# Altium integrated library FDC6331L.IntLib: 1 symbol
Pins are listed as number, name and electrical type; pins without a type are passive.

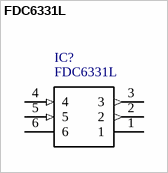
[diagram p0: symbol FDC6331L]

## FDC6331L
designator IC?
FDC6331 Series 8 V 2.8 A High Side Integrated Load Switch - SSOT-6; MF: ON Semiconductor; Availability: Unavailable; Package: TSOT-23-6 ON Semiconductor; Price: None; SnapEDA_Link: https://www.snapeda.com/parts/FDC6331L/ON%20Semiconductor/view-part/?ref=snap; MP: FDC6331L; Value: *
footprint *SSOT6
pins: 1, 2 (out), 3 (out), 4 (in), 5 (in), 6